# EAGLE library part TPS237* (library BSBInterface)
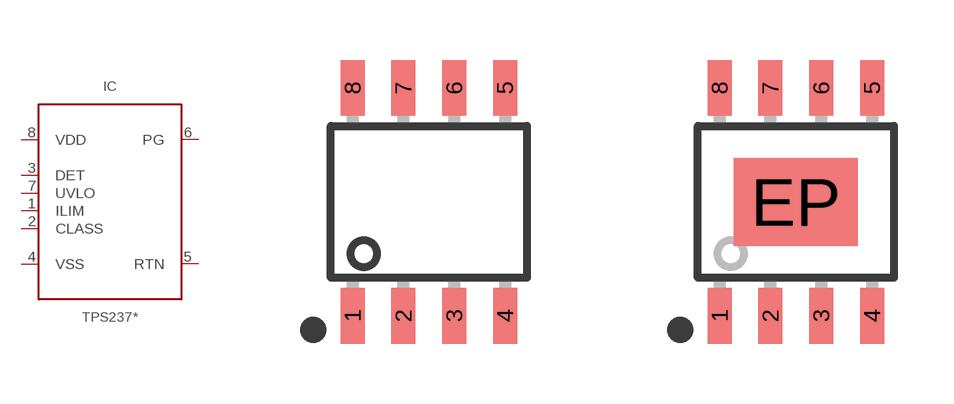
[diagram p4: symbol with the pads of SOIC8; footprints SOIC8, SOIC8-EP]

Designator prefix IC

## TPS2375D (LCSC_PART: C2867397), TPS2376D (LCSC_PART: C2859892)  [SOIC8]
1  ILIM  in
2  CLASS  in
3  DET  in
4  VSS  pwr
5  RTN  pwr
6  PG  out
7  UVLO  in
8  VDD  pwr

## TPS2376DDA (LCSC_PART: C544899)  [SOIC8-EP]
1  ILIM  in
2  CLASS  in
3  DET  in
4  VSS  pwr
5  RTN  pwr
6  PG  out
7  UVLO  in
8  VDD  pwr
EP  VSS  pwr

## Footprint SOIC8 (pad centres in mm)
PLASTIC SMALL-OUTLINE PACKAGE SO 14 JEDEC MS-012, D Type Source: www.ti.com/.. slvs087l.pdf
smd 0.6 x 1.4: 1 -1.905,-2.85; 2 -0.635,-2.85; 3 0.635,-2.85; 4 1.905,-2.85; 5 1.905,2.85; 6 0.635,2.85; 7 -0.635,2.85; 8 -1.905,2.85

## Footprint SOIC8-EP (pad centres in mm)
smd 0.6 x 1.4: 1 -1.905,-2.85; 2 -0.635,-2.85; 3 0.635,-2.85; 4 1.905,-2.85; 5 1.905,2.85; 6 0.635,2.85; 7 -0.635,2.85; 8 -1.905,2.85
smd 3.1 x 2.2: EP 0,0